# Altium footprint library SamacSys.PcbLib: 89 footprints (part 2 of 6)
Each footprint in its own frame and in the unit in brackets; x right, y up, seen from the top. Pads: shape width x height; smd on the part's side, far side on the other; paste and mask are expansions set on the pad; w line width, h text height; cw(c..) or ccw(c..) is an arc to the next point about the centre after c.
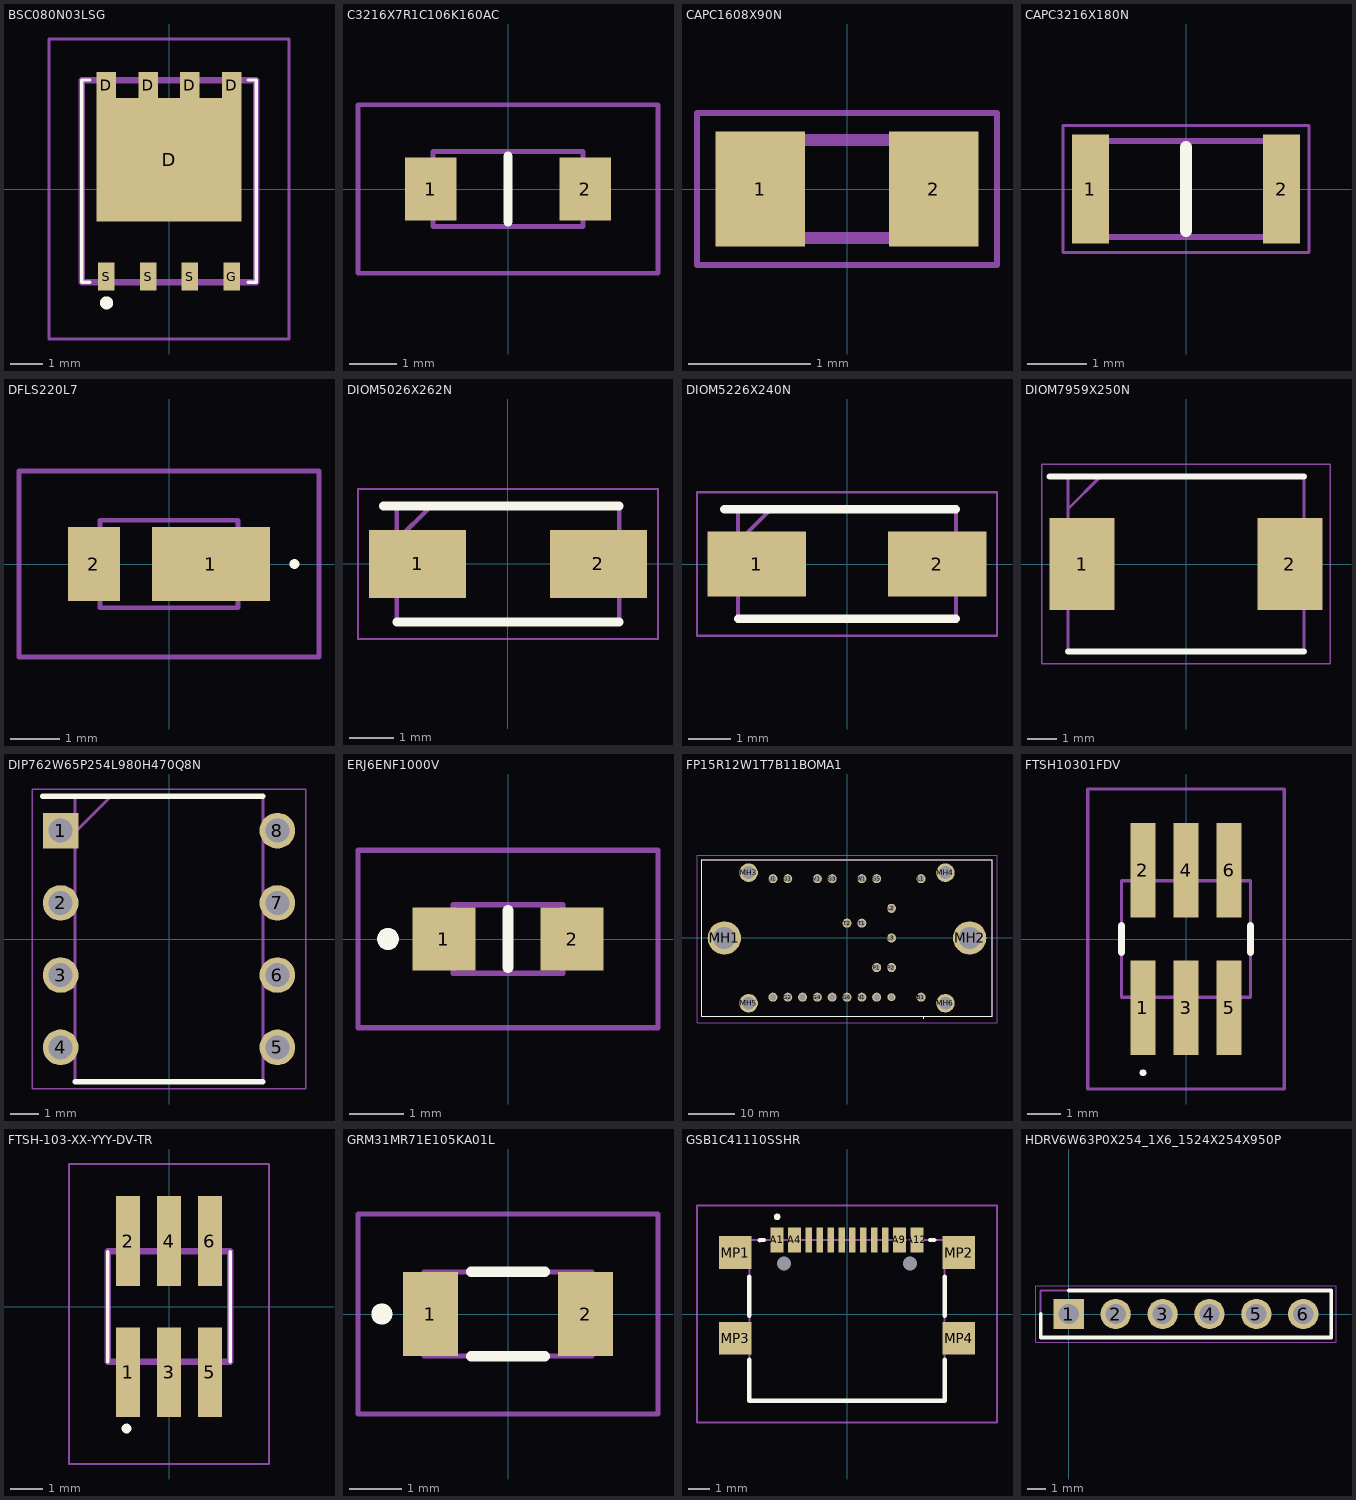
[diagram p1: the footprints below, top view; thin cyan lines are the x and y axes]

## BSC080N03LSG [mm]
pads (9):
  rect 0.6x0.8 smd: D(-1.905,3.163) D(-0.635,3.163) D(0.635,3.163) D(1.905,3.163)
  rect 4.41x3.75 smd: D(0,0.888)
  rect 0.5x0.85 smd: G(1.905,-2.662) S(-1.905,-2.662) S(-0.635,-2.662) S(0.635,-2.662)
Top Overlay:
  lines w0.1: -2.4,-2.838 -2.65,-2.838 -2.65,3.313 -2.4,3.313 ; 2.4,-2.838 2.65,-2.838 2.65,3.313 2.4,3.313
  lines w0.2: -2,-3.463 cw(c-1.9,-3.463) -1.8,-3.463 ; -2,-3.463 ccw(c-1.9,-3.463) -1.799,-3.463
Mechanical 13:
  lines w0.2: -2.65,-2.838 -2.65,3.313 2.65,3.313 2.65,-2.838 -2.65,-2.838
Mechanical 15:
  lines w0.1: -3.65,-4.563 -3.65,4.563 3.65,4.563 3.65,-4.563 -3.65,-4.563
3D body "BSC072N08NS5.stp": height 1, standoff 0, extent -2.697,-3.078 2.693,3.072

## C3216X7R1C106K160AC [mm]
pads (2):
  rect 1.1x1.35 smd: 1(-1.65,0) 2(1.65,0)
Top Overlay:
  lines w0.2: 0,-0.7 0,0.7
Mechanical 13:
  lines w0.1: -1.6,-0.8 1.6,-0.8 1.6,0.8 -1.6,0.8 -1.6,-0.8
Mechanical 15:
  lines w0.1: -3.2,-1.8 3.2,-1.8 3.2,1.8 -3.2,1.8 -3.2,-1.8
3D body "C3216X7R1C106K160AC.stp": height 1.6, standoff 0, extent -1.65,-0.8 1.55,0.8

## CAPC1608X90N [mm]
pads (2):
  rect 0.73x0.94 smd: 1(-0.71,0) 2(0.71,0)
Mechanical 13:
  lines w0.1: -0.8,-0.4 0.8,-0.4 0.8,0.4 -0.8,0.4 -0.8,-0.4
Mechanical 15:
  lines w0.05: -1.225,-0.62 1.225,-0.62 1.225,0.62 -1.225,0.62 -1.225,-0.62
3D body "ECJ-1VB1H104K.stp": height 0.9, standoff 0, extent -0.8,-0.4 0.8,0.4

## CAPC3216X180N [mm]
pads (2):
  rect 0.62x1.82 smd: 1(-1.6,0) 2(1.6,0)
Top Overlay:
  lines w0.2: 0,-0.7 0,0.7
Mechanical 13:
  lines w0.1: -1.6,-0.8 1.6,-0.8 1.6,0.8 -1.6,0.8 -1.6,-0.8
Mechanical 15:
  lines w0.05: -2.06,-1.06 2.06,-1.06 2.06,1.06 -2.06,1.06 -2.06,-1.06
3D body "C3216X7R1C475M160AB.stp": height 1.6, standoff 0, extent -1.6,-0.8 1.6,0.8

## DFLS220L7 [mm]
pads (2):
  rect 2.4x1.5 smd: 1(0.85,0)
  rect 1.05x1.5 smd: 2(-1.525,0)
Top Overlay:
  lines w0.1: 2.5,0 cw(c2.55,0) 2.6,0 cw(c2.55,0) 2.5,0
Mechanical 13:
  lines w0.1: -1.4,-0.89 1.4,-0.89 1.4,0.89 -1.4,0.89 -1.4,-0.89
Mechanical 15:
  lines w0.1: -3.05,-1.89 3.05,-1.89 3.05,1.89 -3.05,1.89 -3.05,-1.89
3D body "DFLS220L-7.stp": height 1.1, standoff 0, extent -1.945,-0.89 1.9,0.89

## DIOM5026X262N [mm]
pads (2):
  rect 2.2x1.55 smd: 1(-2.05,0) 2(2.05,0)
Top Overlay:
  lines w0.2: -2.825,1.312 2.52,1.312 ; -2.52,-1.312 2.52,-1.312
Mechanical 13:
  lines w0.1: -2.52,0.538 -1.745,1.312 ; -2.52,-1.312 -2.52,1.312 2.52,1.312 2.52,-1.312 -2.52,-1.312
Mechanical 15:
  lines w0.05: -3.4,-1.7 -3.4,1.7 3.4,1.7 3.4,-1.7 -3.4,-1.7
3D body "SS36A.stp": height 2.62, standoff 0, extent -2.52,-1.312 2.52,1.312

## DIOM5226X240N [mm]
pads (2):
  rect 2.35x1.55 smd: 1(-2.15,0) 2(2.15,0)
Top Overlay:
  lines w0.2: -2.925,1.302 2.598,1.302 ; -2.598,-1.302 2.598,-1.302
Mechanical 13:
  lines w0.1: -2.598,0.528 -1.822,1.302 ; -2.598,-1.302 2.598,-1.302 2.598,1.302 -2.598,1.302 -2.598,-1.302
Mechanical 15:
  lines w0.05: -3.575,-1.71 3.575,-1.71 3.575,1.71 -3.575,1.71 -3.575,-1.71
3D body "B140-13-F.stp": height 2.11, standoff 0, extent -2.541,-1.398 2.539,1.402

## DIOM7959X250N [mm]
pads (2):
  rect 2.2x3.1 smd: 1(-3.5,0) 2(3.5,0)
Top Overlay:
  lines w0.2: -4.6,2.952 3.97,2.952 ; -3.97,-2.952 3.97,-2.952
Mechanical 13:
  lines w0.1: -3.97,1.852 -2.87,2.952 ; -3.97,-2.952 -3.97,2.952 3.97,2.952 3.97,-2.952 -3.97,-2.952
Mechanical 15:
  lines w0.05: -4.85,-3.36 -4.85,3.36 4.85,3.36 4.85,-3.36 -4.85,-3.36
3D body "B560C.stp": height 2.5, standoff 0, extent -3.97,-2.953 3.97,2.953

## DIP762W65P254L980H470Q8N [mm]
pads (8):
  rect 1.25x1.25 hole 0.85: 1(-3.81,3.81)
  round 1.25 hole 0.85: 2(-3.81,1.27) 3(-3.81,-1.27) 4(-3.81,-3.81) 5(3.81,-3.81) 6(3.81,-1.27) 7(3.81,1.27) 8(3.81,3.81)
Top Overlay:
  lines w0.2: -4.435,5.025 3.3,5.025 ; -3.3,-5.025 3.3,-5.025
Mechanical 13:
  lines w0.1: -3.3,3.755 -2.03,5.025 ; -3.3,-5.025 3.3,-5.025 3.3,5.025 -3.3,5.025 -3.3,-5.025
Mechanical 15:
  lines w0.05: -4.81,-5.275 4.81,-5.275 4.81,5.275 -4.81,5.275 -4.81,-5.275
3D body "HCPL-7510-500E.stp": height 4.7, standoff -3.5, extent -3.972,-4.9 3.972,4.9

## ERJ6ENF1000V [mm]
pads (2):
  rect 1.15x1.15 smd: 1(-1.175,0) 2(1.175,0)
Top Overlay:
  lines w0.2: 0,-0.525 0,0.525 ; -2.2,-0.1 cw(c-2.2,0) -2.2,0.1 cw(c-2.2,0) -2.2,-0.1
Mechanical 13:
  lines w0.1: -1,-0.625 1,-0.625 1,0.625 -1,0.625 -1,-0.625
Mechanical 15:
  lines w0.1: -2.75,-1.625 2.75,-1.625 2.75,1.625 -2.75,1.625 -2.75,-1.625
3D body "ERJ-6ENF3300V.stp": height 0.6, standoff 0, extent -1,-0.625 1,0.625

## FP15R12W1T7B11BOMA1 [mm]
pads (29):
  round 1.95 hole 1.35: B1(16,-12.8) EU1(-16,-12.8) EV1(-9.6,-12.8) EW1(-3.2,-12.8) G1(-12.8,12.8) G2(-12.8,-12.8) G3(-3.2,12.8) G4(-6.4,-12.8) G5(6.4,12.8) G6(0,-12.8) GB1(6.4,-12.8) L1(16,12.8) L2(9.6,6.4) L3(9.6,0) N1(3.2,-12.8) P1(6.4,-6.4) P2(9.6,-6.4) T1(3.2,3.2) T2(0,3.2) U1(-16,12.8) V1(-6.4,12.8) W1(3.2,12.8)
  round 7.2 hole 4.8: MH1(-26.5,0) MH2(26.5,0)
  round 4 hole 2.8: MH3(-21.25,14.1) MH4(21.25,14.1) MH5(-21.25,-14.1) MH6(21.25,-14.1)
  round 1.725 hole 1.15: NB1(9.6,-12.8)
Top Overlay:
  lines w0.1: -31.4,-16.9 31.4,-16.9 31.4,16.9 -31.4,16.9 -31.4,-16.9 ; 16.5,-17.3 ccw(c16.55,-17.3) 16.6,-17.3 ccw(c16.55,-17.3) 16.5,-17.3
Mechanical 13:
  lines w0.2: -31.4,-16.9 31.4,-16.9 31.4,16.9 -31.4,16.9 -31.4,-16.9
Mechanical 15:
  lines w0.1: -32.4,-18.35 32.4,-18.35 32.4,17.9 -32.4,17.9 -32.4,-18.35
3D body "FP15R12W1T7B11BOMA1.stp": height 12.45, standoff -5, extent -31.4,-16.9 31.4,16.9

## FTSH10301FDV [mm]
pads (6):
  rect 0.74x2.79 smd: 1(-1.27,-2.035) 2(-1.27,2.035) 3(0,-2.035) 4(0,2.035) 5(1.27,-2.035) 6(1.27,2.035)
Top Overlay:
  lines w0.1: -1.27,-4 ccw(c-1.27,-3.95) -1.27,-3.9 ; -1.27,-4 cw(c-1.27,-3.95) -1.27,-3.9 ; -1.27,-4 ccw(c-1.27,-3.95) -1.27,-3.9
  lines w0.2: -1.905,-0.4 -1.905,0.4 ; 1.905,-0.4 1.905,0.4
Mechanical 13:
  lines w0.1: -1.905,-1.715 1.905,-1.715 1.905,1.715 -1.905,1.715 -1.905,-1.715
Mechanical 15:
  lines w0.1: -2.905,-4.43 2.905,-4.43 2.905,4.43 -2.905,4.43 -2.905,-4.43
3D body "FTSH-103-01-F-DV.stp": height 5.97, standoff 0, extent -1.905,-2.921 1.905,2.921

## FTSH-103-XX-YYY-DV-TR [mm]
pads (6):
  rect 0.74x2.79 smd: 1(-1.27,-2.035) 2(-1.27,2.035) 3(0,-2.035) 4(0,2.035) 5(1.27,-2.035) 6(1.27,2.035)
Top Overlay:
  circle w0.2: c-1.32,-3.785 r0.05
  lines w0.1: -1.905,-1.715 -1.905,1.715 ; 1.905,-1.715 1.905,1.715
Mechanical 13:
  lines w0.2: -1.905,-1.715 1.905,-1.715 1.905,1.715 -1.905,1.715 -1.905,-1.715
Mechanical 15:
  lines w0.05: -3.105,-4.885 3.105,-4.885 3.105,4.43 -3.105,4.43 -3.105,-4.885
3D body "FTSH-103-01-F-DV-TR.stp": height 5.97, standoff 0, extent -1.905,-3.151 1.905,2.691

## GRM31MR71E105KA01L [mm]
pads (2):
  rect 1.05x1.6 smd: 1(-1.475,0) 2(1.475,0)
Top Overlay:
  lines w0.2: -0.7,-0.8 0.7,-0.8 ; -0.7,0.8 0.7,0.8 ; -2.4,-0.1 cw(c-2.4,0) -2.4,0.1 cw(c-2.4,0) -2.4,-0.1
Mechanical 13:
  lines w0.1: -1.6,-0.8 1.6,-0.8 1.6,0.8 -1.6,0.8 -1.6,-0.8
Mechanical 15:
  lines w0.1: -2.854,-1.902 2.854,-1.902 2.854,1.902 -2.854,1.902 -2.854,-1.902
3D body "GRM31MR71C225KA35L.stp": height 1.25, standoff 0, extent -1.6,-0.8 1.6,0.8

## GSB1C41110SSHR [mm]
pads (18):
  rect 0.6x1.15 smd: A1(-3.2,3.39) A4(-2.4,3.39) A9(2.4,3.39) A12(3.2,3.39)
  rect 0.3x1.15 smd: A5(-1.25,3.39) A6(-0.25,3.39) A7(0.25,3.39) A8(1.25,3.39) B5(1.75,3.39) B6(0.75,3.39) B7(-0.75,3.39) B8(-1.75,3.39)
  round 0.325 hole 0.65 unplated: MH1(-2.89,2.315) MH2(2.89,2.315)
  rect 1.5x1.5 smd: MP1(-5.12,2.815) MP2(5.12,2.815) MP3(-5.12,-1.115) MP4(5.12,-1.115)
Top Overlay:
  lines w0.2: -4.47,-2.088 -4.47,-3.965 4.47,-3.965 4.47,-2.088 ; -4.47,-0.088 -4.47,1.712 ; -4,3.385 -3.8,3.39 ; 3.8,3.39 4,3.39 ; 4.47,-0.088 4.47,1.712 ; -3.2,4.4 cw(c-3.2,4.45) -3.2,4.5 ; -3.2,4.4 ccw(c-3.2,4.45) -3.2,4.5 ; -3.2,4.4 cw(c-3.2,4.45) -3.2,4.5
Mechanical 13:
  lines w0.1: -4.47,-3.965 4.47,-3.965 4.47,3.385 -4.47,3.385 -4.47,-3.965
Mechanical 15:
  lines w0.1: -6.87,-4.965 6.87,-4.965 6.87,4.965 -6.87,4.965 -6.87,-4.965
3D body "GSB1C41110SSHR.stp": height 3.12, standoff -0.76, extent -5.67,-4.088 5.67,3.51

## HDRV6W63P0X254_1X6_1524X254X950P [mm]
pads (6):
  rect 1.65x1.65 hole 1.1: 1(0,0)
  round 1.65 hole 1.1: 2(2.54,0) 3(5.08,0) 4(7.62,0) 5(10.16,0) 6(12.7,0)
Top Overlay:
  lines w0.2: -1.52,0 -1.52,-1.27 14.22,-1.27 14.22,1.27 0,1.27
Mechanical 13:
  lines w0.1: -1.52,-1.27 -1.52,1.27 14.22,1.27 14.22,-1.27 -1.52,-1.27
Mechanical 15:
  lines w0.05: -1.77,-1.52 -1.77,1.52 14.47,1.52 14.47,-1.52 -1.77,-1.52
3D body "825433-6.stp": height 9.5, standoff -3.2, extent -1.27,-2.35 13.97,1.3